# EAGLE library part CONN_8-1 (library pel_molex)
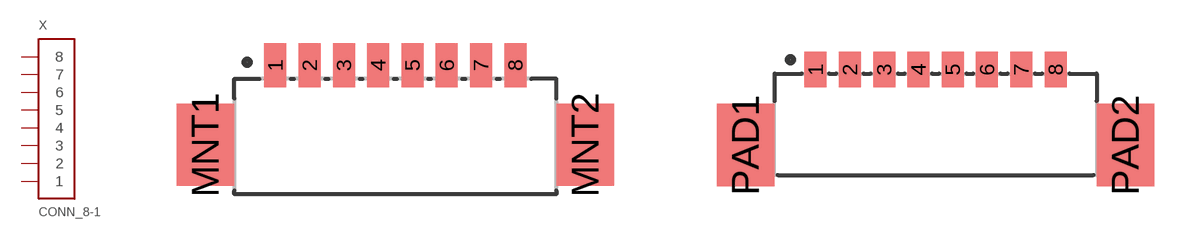
[diagram p0: symbol with the pads of PB-53261-08; footprints PB-53261-08, PB-53398-08]

Designator prefix X

## CONN_8-1-53261  [PB-53261-08]
1  1
2  2
3  3
4  4
5  5
6  6
7  7
8  8

## CONN_8-1-53398  [PB-53398-08]
Pads as for PB-53261-08

## CONN_8-1-53047  [PB-53047-08]
Pads as for PB-53261-08

## Footprint PB-53261-08 (pad centres in mm)
smd 0.8 x 1.6: 1 -4.375,1.1; 2 -3.125,1.1; 3 -1.875,1.1; 4 -0.625,1.1; 5 0.625,1.1; 6 1.875,1.1; 7 3.125,1.1; 8 4.375,1.1
smd 2.1 x 3: MNT1 -6.925,-1.8; MNT2 6.925,-1.8

## Footprint PB-53398-08 (pad centres in mm)
smd 0.8 x 1.3: 1 -4.375,1.25; 2 -3.125,1.25; 3 -1.875,1.25; 4 -0.625,1.25; 5 0.625,1.25; 6 1.875,1.25; 7 3.125,1.25; 8 4.375,1.25
smd 2.1 x 3: PAD1 -6.925,-1.5; PAD2 6.925,-1.5

## Footprint PB-53047-08 (pad centres in mm)
drill 0.5: 1 -4.375,0; 2 -3.125,0; 3 -1.875,0; 4 -0.625,0; 5 0.625,0; 6 1.875,0; 7 3.125,0; 8 4.375,0